# Altium schematic symbol library DB.SchLib: 16 symbols
Pins are listed as number, name and electrical type; pins without a type are passive.

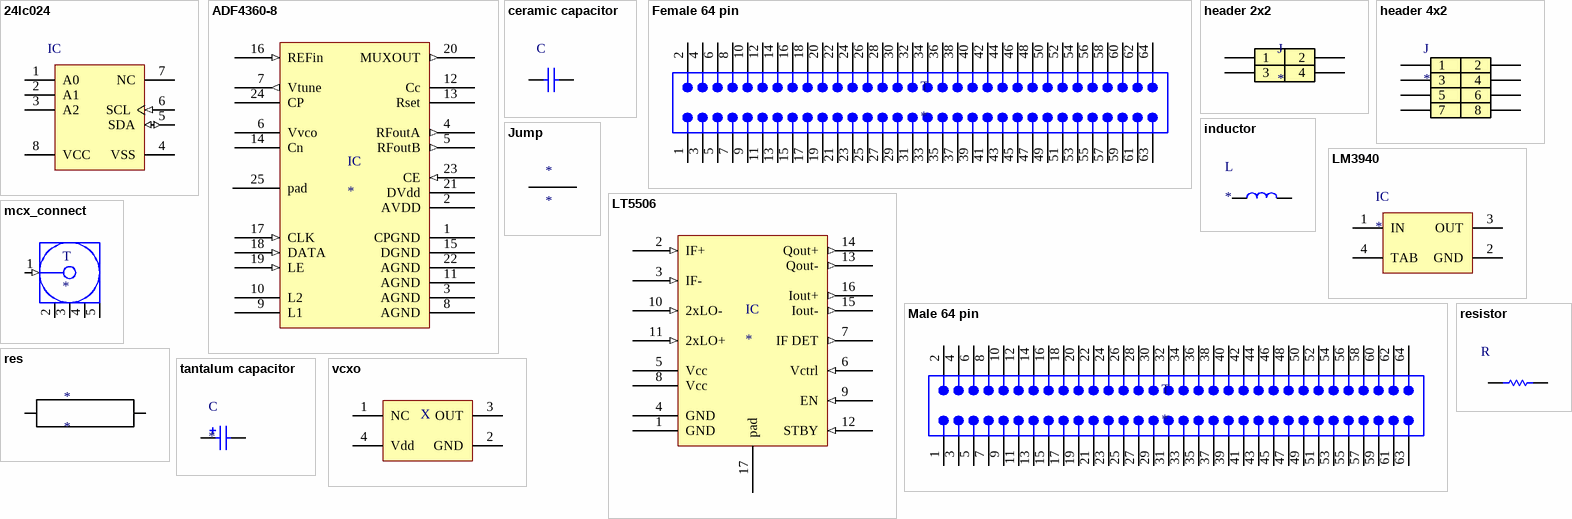
[diagram p0: symbols 24lc024 to vcxo]

## 24lc024
designator IC  (value not drawn)
24lc024
footprint SOIC_SN8
3D model User_Library-SOIC-8-1 (PCB3D Model)
pins: 1 A0, 2 A1, 3 A2, 4 VSS (power), 5 SDA (io), 6 SCL (in), 7 NC, 8 VCC (power)

## ADF4360-8
designator IC
Integrated Synthesizer and VCO
3D model User_Library-QFN24-0_5 (PCB3D Model)
footprint QFN50P408X408X100-24N (QFN, 24-Leads, Body 4,2x4,2mm (max), Pitch 0,50mm, IPC Medium Density)
pins: 1 CPGND (power), 2 AVDD (power), 3 AGND (power) "Power Ground", 4 RFoutA (out) "Ground Sense", 5 RFoutB (out) "Switch Node Connection", 6 Vvco (power) "Enable Input Pin", 7 Vtune (out) "Open-Drain Charge Status Output", 8 AGND (power), 9 L1 "Positive Supply Sense Input", 10 L2, 11 AGND (power), 12 Cc "Charge Current Program", 13 Rset, 14 Cn, 15 DGND (power), 16 REFin (in), 17 CLK (in), 18 DATA (in), 19 LE (in), 20 MUXOUT (out), 21 DVdd (power), 22 AGND (power), 23 CE (in), 24 CP, 25 pad

## ceramic capacitor
designator C  (value not drawn)
footprint 0805 cap
3D model User_Library-0805_SMD_Capacitor (PCB3D Model)
pins: 1, 2

## Female 64 pin
designator T
footprint 64pin female Mezzanine
3D model 714390164 (PCB3D Model)
pins: 1, 2, 3, 4, 5, 6, 7, 8, 9, 10, 11, 12, 13, 14, 15, 16, 17, 18, 19, 20, 21, 22, 23, 24, 25, 26, 27, 28, 29, 30, 31, 32, 33, 34, 35, 36, 37, 38, 39, 40, 41, 42, 43, 44, 45, 46, 47, 48, 49, 50, 51, 52, 53, 54, 55, 56, 57, 58, 59, 60, 61, 62, 63, 64

## header 2x2
designator J
footprint pld 2x2
pins: 1, 2, 3, 4

## header 4x2
designator J
footprint H_4x2
3D model User_Library-PLD-8 (PCB3D Model)
pins: 1, 2, 3, 4, 5, 6, 7, 8

## inductor
designator L
footprint inductor 0805
pins: 1, 2

## Jump
designator *
footprint Jump
pins: 0, 1

## LM3940
designator IC
footprint TO-263
3D model SW3dPS-TO263-3_STEP (PCB3D Model)
pins: 1 IN (power), 2 GND (power), 3 OUT (power), 4 TAB (power)

## LT5506
designator IC
40MHz to 500MHz  Quadrature Demodulator  with VGA
footprint QFN65P400X400X80-16N (QFN, 16-Leads, Body 4,1x4,1mm (max), Pitch 0,65mm, IPC Medium Density)
3D model User_Library-QFN16 (PCB3D Model)
pins: 1 GND (power) "Battery Charger Output Terminal", 2 IF+ (in) "Internal Sense Resistor", 3 IF- (in) "Power Ground", 4 GND (power) "Ground Sense", 5 Vcc (power) "Switch Node Connection", 6 Vctrl (in) "Enable Input Pin", 7 IF DET (out) "Open-Drain Charge Status Output", 8 Vcc (power) "Positive Supply Voltage Input", 9 EN (in) "Positive Supply Sense Input", 10 2xLO- (in) "Battery Fault", 11 2xLO+ (in) "Input to the Negative Temperature Coefficient Thermistor Temperature Monitoring Circuit", 12 STBY (in) "Charge Current Program", 13 Qout- (out) "Charge Rate Detection Threshold", 14 Qout+ (out) "Soft-Start/Compensation", 15 Iout- (out) "Timer Capacitor", 16 Iout+ (out) "Battery Sense Input", 17 pad

## Male 64 pin
designator T
64 Position Mezzanine connectors for board stacking, 1 mm Centerline high density packaging
footprint 64 pin male mezanine
pins: 1, 2, 3, 4, 5, 6, 7, 8, 9, 10, 11, 12, 13, 14, 15, 16, 17, 18, 19, 20, 21, 22, 23, 24, 25, 26, 27, 28, 29, 30, 31, 32, 33, 34, 35, 36, 37, 38, 39, 40, 41, 42, 43, 44, 45, 46, 47, 48, 49, 50, 51, 52, 53, 54, 55, 56, 57, 58, 59, 60, 61, 62, 63, 64

## mcx_connect
designator T
pins: 1 Signal (in) "Signal Pin", 2 GND (power), 3 GND (power), 4 GND (power), 5 GND (power)

## res
designator *
footprint res
pins: 0, 1

## resistor
designator R  (value not drawn)
3D model User_Library-0805_SMD_Resistor (PCB3D Model)
footprint 0805 resistor
pins: 1, 2

## tantalum capacitor
designator C
3D model User_Library-Tantalum_Size_C (PCB3D Model)
footprint capacitor C
pins: 1, 2

## vcxo
designator X  (value not drawn)
footprint CLOCK OSCILLATOR
3D model User_Library-ASFL1 (PCB3D Model)
pins: 1 NC (power), 2 GND (power), 3 OUT (power), 4 Vdd (power)